# Altium footprint library 直插.PcbLib: 159 footprints (part 10 of 10)
Each footprint in its own frame and in the unit in brackets; x right, y up, seen from the top. Pads: shape width x height; smd on the part's side, far side on the other; paste and mask are expansions set on the pad; w line width, h text height; cw(c..) or ccw(c..) is an arc to the next point about the centre after c.
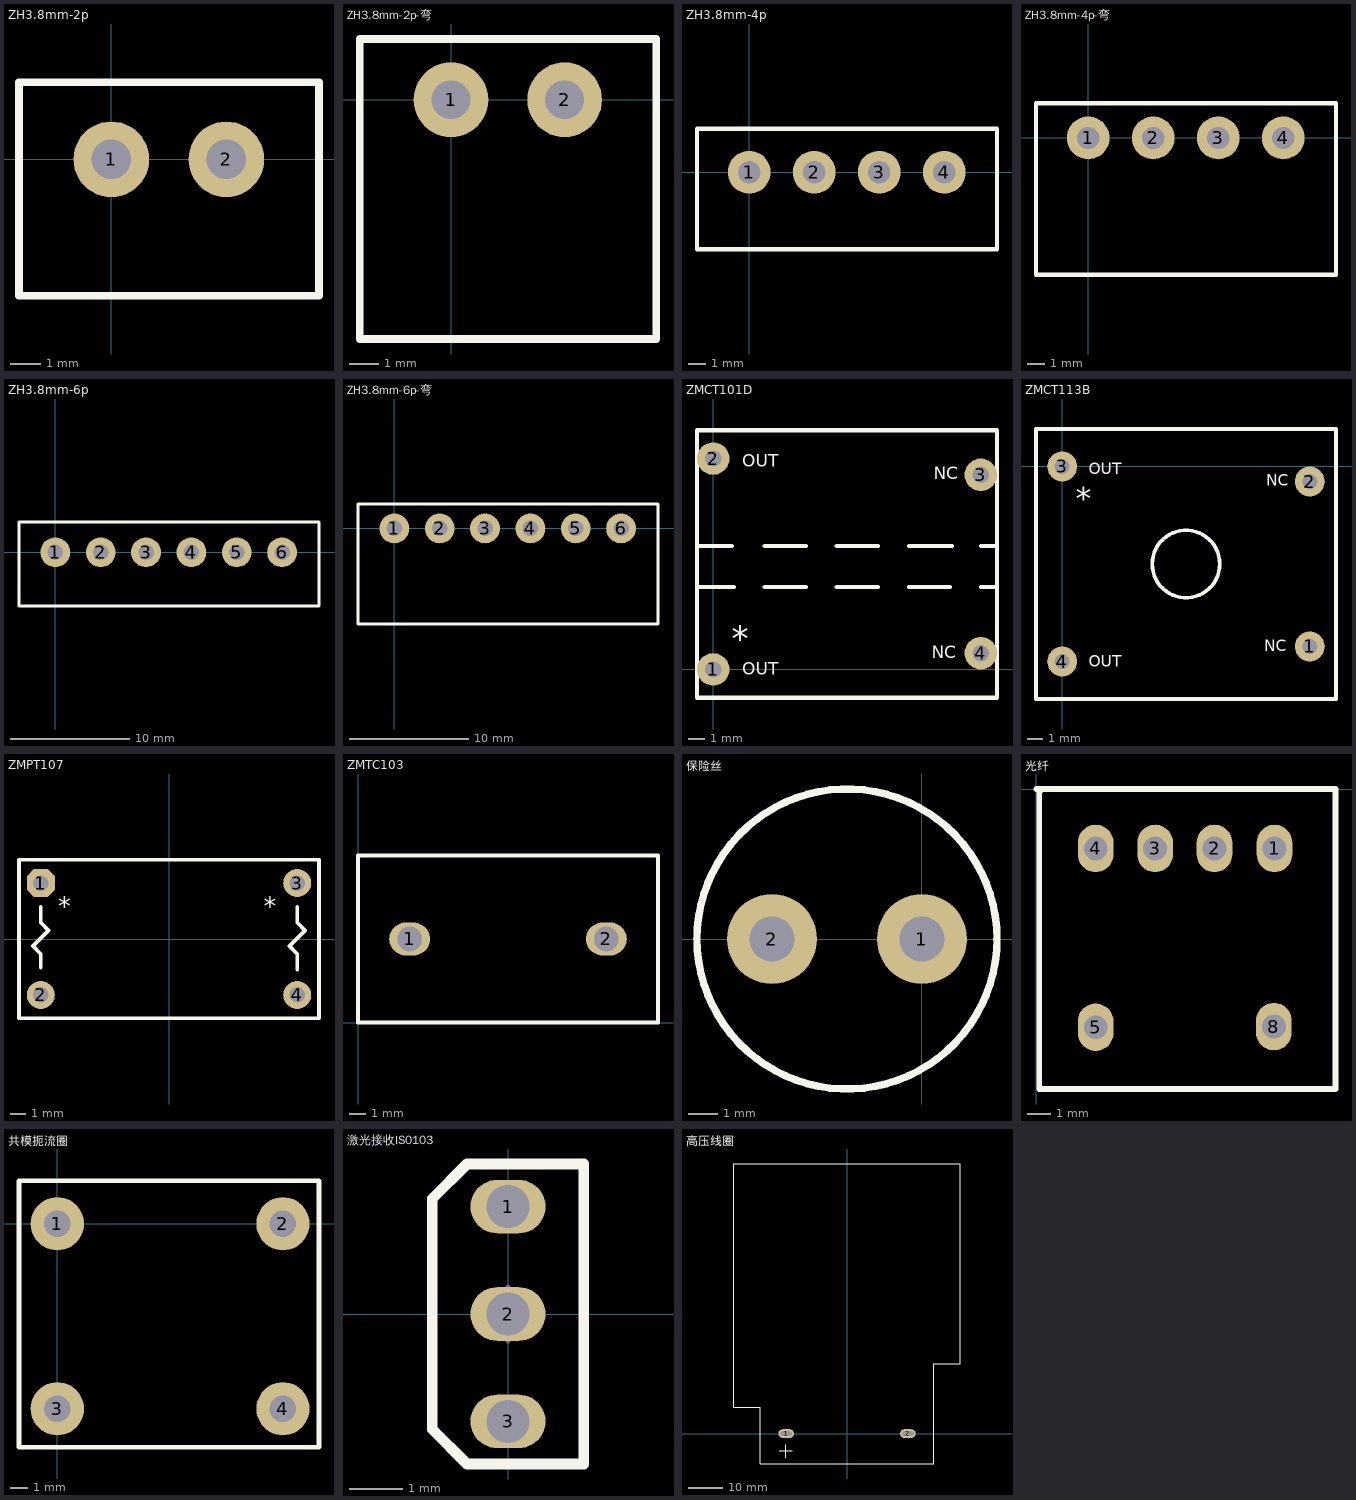
[diagram p9: the footprints below, top view; thin cyan lines are the x and y axes]

## ZH3.8mm-2p [mm]
pads (2):
  round 2.5 hole 1.3: 1(0,0) 2(3.8,0)
Top Overlay:
  lines w0.254: -3.048,-4.5 6.858,-4.5 6.858,2.54 -3.048,2.54 -3.048,-4.5

## ZH3.8mm-2p-弯 [mm]
pads (2):
  round 2.5 hole 1.3: 1(0,0) 2(3.8,0)
Top Overlay:
  lines w0.254: -3.048,-8.001 6.858,-8.001 6.858,2.032 -3.048,2.032 -3.048,-8.001

## ZH3.8mm-4p [mm]
pads (4):
  round 2.5 hole 1.3: 1(0,0) 2(3.8,0) 3(7.6,0) 4(11.4,0)
Top Overlay:
  lines w0.254: -3.048,-4.5 -3.048,2.54 14.478,2.54 14.478,-4.5 -3.048,-4.5

## ZH3.8mm-4p-弯 [mm]
pads (4):
  round 2.5 hole 1.3: 1(0,0) 2(3.8,0) 3(7.6,0) 4(11.4,0)
Top Overlay:
  lines w0.254: -3.048,-8.001 -3.048,2.032 14.478,2.032 14.478,-8.001 -3.048,-8.001

## ZH3.8mm-6p [mm]
pads (6):
  round 2.5 hole 1.3: 1(0,0) 2(3.8,0) 3(7.6,0) 4(11.4,0) 5(15.2,0) 6(19,0)
Top Overlay:
  lines w0.254: -3.048,-4.5 22.098,-4.5 22.098,2.54 -3.048,2.54 -3.048,-4.5

## ZH3.8mm-6p-弯 [mm]
pads (6):
  round 2.5 hole 1.3: 1(0,0) 2(3.8,0) 3(7.6,0) 4(11.4,0) 5(15.2,0) 6(19,0)
Top Overlay:
  lines w0.254: -3.048,-8.001 -3.048,2.032 22.098,2.032 22.098,-8.001 -3.048,-8.001

## ZMCT101D [mm]
pads (4):
  round 2 hole 1: 1(0,0) 2(0,13) 3(16.5,12) 4(16.5,1)
Top Overlay:
  lines w0.254: -1,5.08 1.27,5.08 ; -1,7.62 1.143,7.62 ; -1,14.732 -1,-1.75 17.5,-1.75 17.5,14.732 ; -1,14.75 17.5,14.75 ; 3.175,5.08 5.715,5.08 ; 3.175,7.62 5.715,7.62 ; 7.62,5.08 10.16,5.08 ; 7.62,7.62 10.16,7.62 ; 12.065,5.08 14.605,5.08 ; 12.065,7.62 14.732,7.62 ; 16.51,5.08 17.5,5.08 ; 16.51,7.62 17.5,7.62
  text "NC" at 13.589,11.73 h0.76
  text "NC" at 13.462,0.681 h0.76
  text "OUT" at 1.778,-0.335 h0.76
  text "OUT" at 1.778,12.492 h0.76
  text "*" at 1.143,1.143 h1.52
3D body: height 20, standoff 0, extent -1.016,-1.778 17.526,14.732

## ZMCT113B [mm]
pads (4):
  round 2 hole 1: 1(16.5,-12) 2(16.5,-1) 3(0,0) 4(0,-13)
Top Overlay:
  circle w0.254: c8.25,-6.5 r2.25
  lines w0.254: -1.75,-15.5 -1.75,2.5 18.25,2.5 18.25,-15.5 -1.75,-15.5
  text "NC" at 13.589,-1.27 h0.76
  text "NC" at 13.462,-12.319 h0.76
  text "OUT" at 1.778,-13.335 h0.76
  text "OUT" at 1.778,-0.508 h0.76
  text "*" at 0.889,-2.921 h1.52
3D body: height 18, standoff 0, extent -1.778,-15.621 18.288,2.54

## ZMPT107 [mm]
height 3.55
pads (4):
  oct 1.8x1.8 hole 1: 1(-8.25,3.6)
  round 1.8 hole 1: 2(-8.25,-3.6) 3(8.25,3.6) 4(8.25,-3.6)
Top Overlay:
  lines w0.2: -8.25,-1.861 -8.25,-0.972 ; -8.25,1.06 -8.25,2.076 ; 8.25,-1.988 8.25,-0.972 ; 8.25,1.06 8.25,2.076
  lines w0.254: -8.25,-0.972 -8.758,-0.464 -7.742,0.552 -8.25,1.06 ; 8.25,-0.972 7.742,-0.464 8.758,0.552 8.25,1.06 ; 9.628,-5.1 -9.65,-5.1 -9.65,5.1 9.65,5.1 9.65,-5.078
  text "*" at 6.096,1.524 h1.2
  text "*" at -7.112,1.524 h1.2

## ZMTC103 [mm]
pads (2):
  oval 2.5x2 hole 1.5: 1(3.15,5.1) 2(15.15,5.1)
Top Overlay:
  lines w0.254: 0,0 18.3,0 18.3,10.2 0,10.2 0,0

## 保险丝 [mil]
pads (2):
  round 120 hole 60: 1(0,0) 2(-200,0)
Top Overlay:
  circle w10: c-100,0 r200

## 光纤 [mil]
height 43.31
pads (6):
  oval 60x80 hole 40: 1(401,-100) 2(300,-100) 3(200,-100) 4(100,-100) 5(100,-401) 8(400,-400)
Top Overlay:
  lines w10: 0,0 504,0 504,-505 5,-505 5,-5 10,0

## 共模扼流圈 [mm]
pads (4):
  round 3 hole 1.5: 1(0,0) 2(12.7,0) 3(0,-10.414) 4(12.7,-10.414)
Top Overlay:
  lines w0.254: -2.159,-12.573 -2.159,2.413 14.732,2.413 14.732,-12.573 -2.159,-12.573

## 激光接收IS0103 [mm] "TO, Flat Index; 3 In-Line, Axial Leads; Body Dia. 4.6mm; Lead Dia. 0.5 mm (max)"
height 4.01
pads (3):
  oval 1.4x1 hole 0.8: 1(0,2) 2(0,0) 3(0,-2)
Top Overlay:
  lines w0.2: -1.41,-2.146 -0.762,-2.794 1.41,-2.794 1.41,2.794 -0.762,2.794 -1.41,2.146 -1.41,-2.146
Mechanical 15:
  lines w0.1: -0.5,0 0.5,0 ; 0,-0.5 0,0.5

## 高压线圈 [mil]
pads (2):
  oval 180x100 hole 50 slot 130 at 0 deg: 1(-700,0) 2(700,0)
Top Overlay:
  lines w10: -780,-200 -630,-200 ; -705,-280 -705,-130 ; -1300,300 -1000,300 -1000,-350 1000,-350 1000,800 1300,800 1300,3100 -1300,3100 -1300,300